# EAGLE library part ATTINY85 (library LowellMakesEagleLibrary)
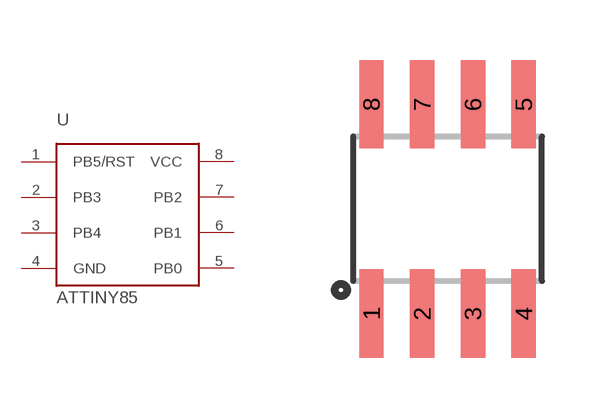
[diagram p0: symbol with the pads of SOIC8; footprint SOIC8]

Designator prefix -

## ATTINY85  [SOIC8]
1  PB5/RST
2  PB3
3  PB4
4  GND  pwr
5  PB0
6  PB1
7  PB2
8  VCC  pwr

## Footprint SOIC8 (pad centres in mm)
SOIC 8-Lead
smd 0.61 x 2.21: 1 -1.905,-2.616; 2 -0.635,-2.616; 3 0.635,-2.616; 4 1.905,-2.616; 5 1.905,2.616; 6 0.635,2.616; 7 -0.635,2.616; 8 -1.905,2.616